# Altium footprint library Altium_WE_eiSos_WE-DS Bent 90°.PcbLib: 8 footprints
Each footprint in its own frame and in the unit in brackets; x right, y up, seen from the top. Pads: shape width x height; smd on the part's side, far side on the other; paste and mask are expansions set on the pad; w line width, h text height; cw(c..) or ccw(c..) is an arc to the next point about the centre after c.
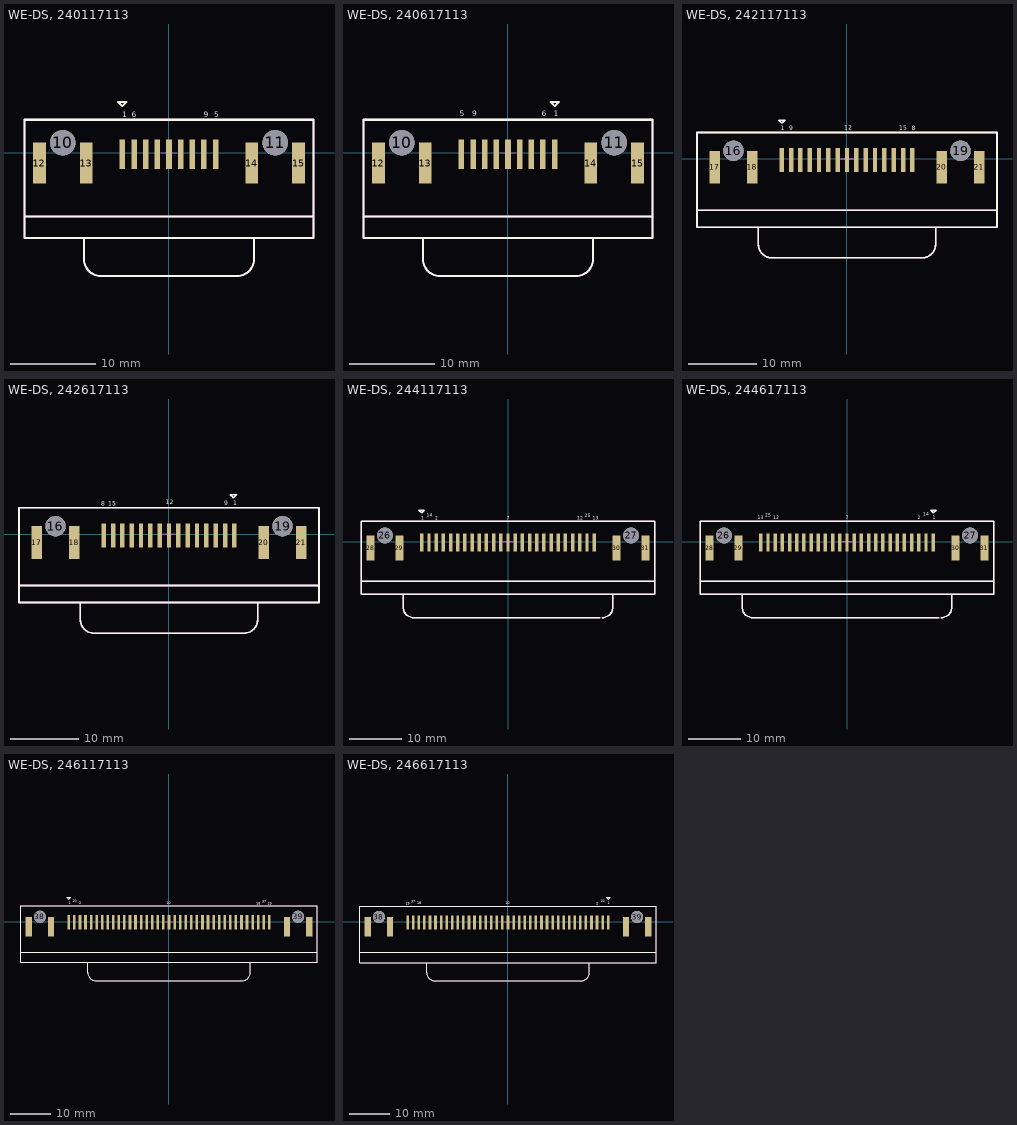
[diagram p0: the footprints below, top view; thin cyan lines are the x and y axes]

## WE-DS, 240117113 [mm] "D-SUB- 9P, MALE, RT ANGLE, SMT"
height 12.4
pads (15):
  rect 0.65x3.5 smd: 1(-5.48,-0.15) 2(-2.74,-0.15) 3(0,-0.15) 4(2.74,-0.15) 5(5.48,-0.15) 6(-4.11,-0.15) 7(-1.37,-0.15) 8(1.37,-0.15) 9(4.11,-0.15)
  round 3 hole 3 unplated: 10(-12.5,1.2) 11(12.5,1.2)
  rect 1.5x4.8 smd: 12(-15.25,-1.2) 13(-9.75,-1.2) 14(9.75,-1.2) 15(15.25,-1.2)
Top Overlay:
  lines w0.254: -10,-10 -10,-12.5 ccw(c-8,-12.5) -8,-14.5 8,-14.5 ccw(c8,-12.5) 10,-12.5 10,-10 ; -17,-7.5 17,-7.5 ; -17,-7.5 -17,3.9 17,3.9 17,-7.5 ; -17,-7.5 -17,-10 17,-10 17,-7.5 ; -6,6 -5.5,5.5 -5,6 -5.5,6 -6,6
  text "6" at -4.4,4.2 h0.64
  text "9" at 4.1,4.2 h0.64
  text "5" at 5.3,4.2 h0.64
  text "1" at -5.5,4.2 h0.64
Mechanical 15:
  lines w0.102: -0.9,0 0.9,0 ; 0,-0.9 0,0.9
  lines w0.254: -10,-10 -10,-12.5 ccw(c-8,-12.5) -8,-14.5 8,-14.5 ccw(c8,-12.5) 10,-12.5 10,-10 ; -17,-7.5 17,-7.5 ; -17,-7.5 -17,3.9 17,3.9 17,-7.5 ; -17,-7.5 -17,-10 17,-10 17,-7.5
3D body: height 12.7, standoff -2.8, extent -15.5,-14.3 15.5,4

## WE-DS, 240617113 [mm] "D-SUB- 9P, FEMALE, RT ANGLE, SMT"
height 12.4
pads (15):
  rect 0.65x3.5 smd: 1(5.48,-0.15) 2(2.74,-0.15) 3(0,-0.15) 4(-2.74,-0.15) 5(-5.48,-0.15) 6(4.11,-0.15) 7(1.37,-0.15) 8(-1.37,-0.15) 9(-4.11,-0.15)
  round 3 hole 3 unplated: 10(-12.5,1.2) 11(12.5,1.2)
  rect 1.5x4.8 smd: 12(-15.25,-1.2) 13(-9.75,-1.2) 14(9.75,-1.2) 15(15.25,-1.2)
Top Overlay:
  lines w0.254: -10,-10 -10,-12.5 ccw(c-8,-12.5) -8,-14.5 8,-14.5 ccw(c8,-12.5) 10,-12.5 10,-10 ; -17,-7.5 -17,-10 17,-10 17,-7.5 ; -17,-7.5 -17,3.9 17,3.9 17,-7.5 ; -17,-7.5 17,-7.5 ; 5,6 5.5,5.5 6,6 5.5,6 5,6
  text "1" at 5.4,4.3 h0.64
  text "5" at -5.7,4.3 h0.64
  text "9" at -4.2,4.3 h0.64
  text "6" at 4,4.3 h0.64
Mechanical 15:
  lines w0.102: -0.9,0 0.9,0 ; 0,-0.9 0,0.9
  lines w0.254: -10,-10 -10,-12.5 ccw(c-8,-12.5) -8,-14.5 8,-14.5 ccw(c8,-12.5) 10,-12.5 10,-10 ; -17,-7.5 -17,-10 17,-10 17,-7.5 ; -17,-7.5 -17,3.9 17,3.9 17,-7.5 ; -17,-7.5 17,-7.5
3D body: height 12.7, standoff -2.8, extent -15.5,-14.45 15.5,4

## WE-DS, 242117113 [mm] "D-SUB- 15P, MALE, RT ANGLE, SMT"
height 12.4
pads (21):
  rect 0.65x3.5 smd: 1(-9.57,-0.15) 2(-6.83,-0.15) 3(-4.11,-0.15) 4(-1.37,-0.15) 5(1.37,-0.15) 6(4.11,-0.15) 7(6.85,-0.15) 8(9.59,-0.15) 9(-8.2,-0.15) 10(-5.48,-0.15) 11(-2.74,-0.15) 12(0,-0.15) 13(2.74,-0.15) 14(5.48,-0.15) 15(8.22,-0.15)
  round 3 hole 3 unplated: 16(-16.65,1.2) 19(16.65,1.2)
  rect 1.5x4.8 smd: 17(-19.4,-1.2) 18(-13.9,-1.2) 20(13.9,-1.2) 21(19.4,-1.2)
Top Overlay:
  lines w0.254: -22,-7.5 22,-7.5 ; -13,-10 -13,-12.5 ccw(c-11,-12.5) -11,-14.5 11,-14.5 ccw(c11,-12.5) 13,-12.5 13,-10 ; -10,5.7 -9.6,5.3 -9.5,5.3 -9.1,5.7 -10,5.7 ; -10,5.7 -10,5.7 ; -10,5.7 -9.9,5.7 -10,5.7 ; -22,-10 -22,3.9 22,3.9 22,-10 17,-10 -17,-10 -22,-10
  text "1" at -9.7,4.2 h0.64
  text "8" at 9.5,4.2 h0.64
  text "12" at -0.4,4.3 h0.64
  text "9" at -8.5,4.2 h0.64
  text "15" at 7.7,4.2 h0.64
Mechanical 15:
  lines w0.254: -22,-7.5 22,-7.5 ; -13,-10 -13,-12.5 ccw(c-11,-12.5) -11,-14.5 11,-14.5 ccw(c11,-12.5) 13,-12.5 13,-10 ; -0.9,0 0.9,0 ; 0,-0.9 0,0.9 ; -22,-10 -22,3.9 22,3.9 22,-10 17,-10 -17,-10 -22,-10
3D body: height 12.7, standoff -2.8, extent -19.65,-14.3 19.65,4

## WE-DS, 242617113 [mm] "D-SUB- 15P, FEMALE, RT ANGLE, SMT"
height 12.4
pads (21):
  rect 0.65x3.5 smd: 1(9.59,-0.15) 2(6.85,-0.15) 3(4.11,-0.15) 4(1.37,-0.15) 5(-1.37,-0.15) 6(-4.11,-0.15) 7(-6.83,-0.15) 8(-9.57,-0.15) 9(8.22,-0.15) 10(5.48,-0.15) 11(2.74,-0.15) 12(0,-0.15) 13(-2.74,-0.15) 14(-5.48,-0.15) 15(-8.2,-0.15)
  round 3 hole 3 unplated: 16(-16.65,1.2) 19(16.65,1.2)
  rect 1.5x4.8 smd: 17(-19.4,-1.2) 18(-13.9,-1.2) 20(13.9,-1.2) 21(19.4,-1.2)
Top Overlay:
  lines w0.254: -22,-7.5 22,-7.5 ; -13,-10 -13,-12.5 ccw(c-11,-12.5) -11,-14.5 11,-14.5 ccw(c11,-12.5) 13,-12.5 13,-10 ; 9,5.8 9.9,5.8 9.5,5.4 9.4,5.4 9,5.8 ; 9,5.8 9.1,5.8 9,5.8 ; 9,5.8 9,5.8 ; -22,-10 -22,3.9 22,3.9 22,-10 17,-10 -17,-10 -22,-10
  text "1" at 9.4,4.3 h0.64
  text "8" at -9.9,4.2 h0.64
  text "12" at -0.5,4.4 h0.64
  text "9" at 8.1,4.3 h0.64
  text "15" at -8.9,4.2 h0.64
Mechanical 15:
  lines w0.254: -22,-7.5 22,-7.5 ; -13,-10 -13,-12.5 ccw(c-11,-12.5) -11,-14.5 11,-14.5 ccw(c11,-12.5) 13,-12.5 13,-10 ; -0.9,0 0.9,0 ; 0,-0.9 0,0.9 ; -22,-10 -22,3.9 22,3.9 22,-10 17,-10 -17,-10 -22,-10
3D body: height 12.7, standoff -2.8, extent -19.65,-14.45 19.65,4

## WE-DS, 244117113 [mm] "D-SUB- 25P, MALE, RT ANGLE, SMT"
height 12.4
pads (31):
  rect 0.65x3.5 smd: 1(-16.45,-0.15) 2(-13.71,-0.15) 3(-10.97,-0.15) 4(-8.23,-0.15) 5(-5.49,-0.15) 6(-2.75,-0.15) 7(0,-0.15) 8(2.75,-0.15) 9(5.49,-0.15) 10(8.23,-0.15) 11(10.97,-0.15) 12(13.71,-0.15) 13(16.45,-0.15) 14(-15.08,-0.15) 15(-12.34,-0.15) 16(-9.6,-0.15) 17(-6.86,-0.15) 18(-4.12,-0.15) 19(-1.38,-0.15) 20(1.38,-0.15) 21(4.12,-0.15) 22(6.86,-0.15) 23(9.6,-0.15) 24(12.34,-0.15) 25(15.08,-0.15)
  round 3 hole 3 unplated: 26(-23.5,1.2) 27(23.5,1.2)
  rect 1.5x4.8 smd: 28(-26.25,-1.2) 29(-20.75,-1.2) 30(20.75,-1.2) 31(26.25,-1.2)
Top Overlay:
  lines w0.254: -28,-7.5 28,-7.5 ; -20,-10 -20,-12.5 ccw(c-18,-12.5) -18,-14.5 17.5,-14.5 ; 18,-14.5 ccw(c18,-12.5) 20,-12.5 20,-10 ; -28,-10 -17,-10 17,-10 28,-10 28,3.9 -28,3.9 -28,-10 ; -17,6 -16.5,5.5 -16,6 -17,6
  text "2" at -13.9,4.2 h0.64
  text "25" at 14.7,4.7 h0.64
  text "13" at 16.2,4.2 h0.64
  text "7" at -0.2,4.2 h0.64
  text "14" at -15.5,4.8 h0.64
  text "1" at -16.6,4.2 h0.64
  text "12" at 13.2,4.2 h0.64
Mechanical 15:
  lines w0.254: -28,-7.5 28,-7.5 ; -20,-10 -20,-12.5 ccw(c-18,-12.5) -18,-14.5 18,-14.5 ccw(c18,-12.5) 20,-12.5 20,-10 ; -0.9,0 0.9,0 ; 0,-0.9 0,0.9 ; -28,-10 -17,-10 17,-10 28,-10 28,3.9 -28,3.9 -28,-10

## WE-DS, 244617113 [mm] "D-SUB- 25P, FEMALE, RT ANGLE, SMT"
height 12.4
pads (31):
  rect 0.65x3.5 smd: 1(16.45,-0.15) 2(13.71,-0.15) 3(10.97,-0.15) 4(8.23,-0.15) 5(5.49,-0.15) 6(2.75,-0.15) 7(0,-0.15) 8(-2.75,-0.15) 9(-5.49,-0.15) 10(-8.23,-0.15) 11(-10.97,-0.15) 12(-13.71,-0.15) 13(-16.45,-0.15) 14(15.08,-0.15) 15(12.34,-0.15) 16(9.6,-0.15) 17(6.86,-0.15) 18(4.12,-0.15) 19(1.38,-0.15) 20(-1.38,-0.15) 21(-4.12,-0.15) 22(-6.86,-0.15) 23(-9.6,-0.15) 24(-12.34,-0.15) 25(-15.08,-0.15)
  round 3 hole 3 unplated: 26(-23.5,1.2) 27(23.5,1.2)
  rect 1.5x4.8 smd: 28(-26.25,-1.2) 29(-20.75,-1.2) 30(20.75,-1.2) 31(26.25,-1.2)
Top Overlay:
  lines w0.254: -28,-7.5 28,-7.5 ; -20,-10 -20,-12.5 ccw(c-18,-12.5) -18,-14.5 17.5,-14.5 ; 18,-14.5 ccw(c18,-12.5) 20,-12.5 20,-10 ; 16.5,5.5 16,6 17,6 16.5,5.5 ; 16.5,5.5 16.5,5.5 ; -28,-10 -17,-10 17,-10 28,-10 28,3.9 -28,3.9 -28,-10
  text "2" at 13.5,4.3 h0.64
  text "1" at 16.4,4.3 h0.64
  text "14" at 14.6,5 h0.64
  text "7" at -0.2,4.3 h0.64
  text "25" at -15.6,4.8 h0.64
  text "13" at -17,4.3 h0.64
  text "12" at -14.1,4.3 h0.64
Mechanical 15:
  lines w0.254: -28,-7.5 28,-7.5 ; -20,-10 -20,-12.5 ccw(c-18,-12.5) -18,-14.5 18,-14.5 ccw(c18,-12.5) 20,-12.5 20,-10 ; -0.9,0 0.9,0 ; 0,-0.9 0,0.9 ; -28,-10 -17,-10 17,-10 28,-10 28,3.9 -28,3.9 -28,-10

## WE-DS, 246117113 [mm] "D-SUB- 37P, MALE, RT ANGLE, SMT"
height 12.4
pads (43):
  rect 0.65x3.5 smd: 1(-24.65,-0.15) 2(-21.91,-0.15) 3(-19.17,-0.15) 4(-16.45,-0.15) 5(-13.71,-0.15) 6(-10.97,-0.15) 7(-8.23,-0.15) 8(-5.49,-0.15) 9(-2.75,-0.15) 10(0,-0.15) 11(2.75,-0.15) 12(5.49,-0.15) 13(8.23,-0.15) 14(10.97,-0.15) 15(13.71,-0.15) 16(16.45,-0.15) 17(19.19,-0.15) 18(21.93,-0.15) 19(24.67,-0.15) 20(-23.28,-0.15) 21(-20.54,-0.15) 22(-17.8,-0.15) 23(-15.08,-0.15) 24(-12.34,-0.15) 25(-9.6,-0.15) 26(-6.86,-0.15) 27(-4.12,-0.15) 28(-1.38,-0.15) 29(1.38,-0.15) 30(4.12,-0.15) 31(6.86,-0.15) 32(9.6,-0.15) 33(12.34,-0.15) 34(15.08,-0.15) 35(17.82,-0.15) 36(20.56,-0.15) 37(23.3,-0.15)
  round 3 hole 3 unplated: 38(-31.75,1.2) 39(31.75,1.2)
  rect 1.5x4.8 smd: 40(-34.5,-1.2) 41(-29,-1.2) 42(29,-1.2) 43(34.5,-1.2)
Top Overlay:
  lines w0.254: -36.4,-7.5 36.5,-7.5 ; -20,-10 -20,-12.5 ccw(c-18,-12.5) -18,-14.5 18,-14.5 ccw(c18,-12.5) 20,-12.5 20,-10 ; -24.7,5.5 -24.2,6 -25.2,6 -24.7,5.5 ; -24.7,5.5 -24.7,5.5 ; -36.5,-10 -17,-10 17,-10 36.5,-10 36.5,3.9 -36.5,3.9 -36.5,-10
  text "1" at -24.7,4.3 h0.64
  text "20" at -23.7,4.8 h0.64
  text "2" at -22.1,4.3 h0.64
  text "10" at -0.5,4.25 h0.64
  text "19" at 24.3,4.2 h0.64
  text "18" at 21.5,4.2 h0.64
  text "37" at 22.9,4.7 h0.64
Mechanical 15:
  lines w0.254: -36.5,-7.5 36.5,-7.5 ; -20,-10 -20,-12.5 ccw(c-18,-12.5) -18,-14.5 18,-14.5 ccw(c18,-12.5) 20,-12.5 20,-10 ; -0.9,0 0.9,0 ; 0,-0.9 0,0.9 ; -36.5,-10 -17,-10 17,-10 36.5,-10 36.5,3.9 -36.5,3.9 -36.5,-10

## WE-DS, 246617113 [mm] "D-SUB- 37P, FEMALE, RT ANGLE, SMT"
height 12.4
pads (43):
  rect 0.65x3.5 smd: 1(24.65,-0.15) 2(21.91,-0.15) 3(19.17,-0.15) 4(16.45,-0.15) 5(13.71,-0.15) 6(10.97,-0.15) 7(8.23,-0.15) 8(5.49,-0.15) 9(2.75,-0.15) 10(0,-0.15) 11(-2.75,-0.15) 12(-5.49,-0.15) 13(-8.23,-0.15) 14(-10.97,-0.15) 15(-13.71,-0.15) 16(-16.45,-0.15) 17(-19.19,-0.15) 18(-21.93,-0.15) 19(-24.67,-0.15) 20(23.28,-0.15) 21(20.54,-0.15) 22(17.8,-0.15) 23(15.08,-0.15) 24(12.34,-0.15) 25(9.6,-0.15) 26(6.86,-0.15) 27(4.12,-0.15) 28(1.38,-0.15) 29(-1.38,-0.15) 30(-4.12,-0.15) 31(-6.86,-0.15) 32(-9.6,-0.15) 33(-12.34,-0.15) 34(-15.08,-0.15) 35(-17.82,-0.15) 36(-20.56,-0.15) 37(-23.3,-0.15)
  round 3 hole 3 unplated: 38(-31.75,1.2) 39(31.75,1.2)
  rect 1.5x4.8 smd: 40(-34.5,-1.2) 41(-29,-1.2) 42(29,-1.2) 43(34.5,-1.2)
Top Overlay:
  lines w0.254: -36.4,-7.5 36.5,-7.5 ; -20,-10 -20,-12.5 ccw(c-18,-12.5) -18,-14.5 18,-14.5 ccw(c18,-12.5) 20,-12.5 20,-10 ; 24.7,5.6 25.2,6.1 24.2,6.1 24.7,5.6 ; 24.7,5.6 24.7,5.6 ; -36.5,-10 -17,-10 17,-10 36.5,-10 36.5,3.9 -36.5,3.9 -36.5,-10
  text "19" at -25.2,4.2 h0.64
  text "37" at -23.8,4.7 h0.64
  text "18" at -22.3,4.3 h0.64
  text "10" at -0.5,4.3 h0.64
  text "1" at 24.6,4.3 h0.64
  text "2" at 21.7,4.2 h0.64
  text "20" at 22.8,4.8 h0.64
Mechanical 15:
  lines w0.254: -36.5,-7.5 36.5,-7.5 ; -20,-10 -20,-12.5 ccw(c-18,-12.5) -18,-14.5 18,-14.5 ccw(c18,-12.5) 20,-12.5 20,-10 ; -0.9,0 0.9,0 ; 0,-0.9 0,0.9 ; -36.5,-10 -17,-10 17,-10 36.5,-10 36.5,3.9 -36.5,3.9 -36.5,-10